# EAGLE library part SPV1040 (library space-concordia-power)
SPV1040 A solar MPPT chip by ST-Microelectronics that is designed for portable solar battery charging applications. TSSOP8 Package
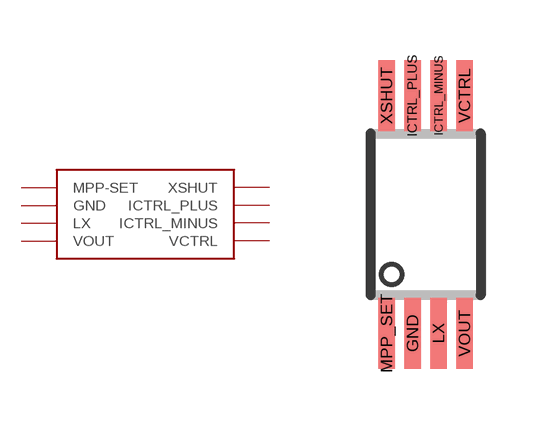
[diagram p0: symbol with the pads of TSSOP-8; footprint TSSOP-8]

Designator prefix -

## SPV1040  [TSSOP-8]
GND  GND
ICTRL_MINUS  ICTRL_MINUS
ICTRL_PLUS  ICTRL_PLUS
LX  LX
MPP_SET  MPP-SET
VCTRL  VCTRL
VOUT  VOUT
XSHUT  XSHUT

## Footprint TSSOP-8 (pad centres in mm)
TSSOP8 Package
smd 0.42 x 1.78: GND -0.325,-2.975; ICTRL_MINUS 0.325,2.975; ICTRL_PLUS -0.325,2.975; LX 0.325,-2.975; MPP_SET -0.975,-2.975; VCTRL 0.975,2.975; VOUT 0.975,-2.975; XSHUT -0.975,2.975